# Altium footprint library PCB - BATTERY HOLDER - MPD BC2AAPC.PCBLIB: 1 footprints
Each footprint in its own frame and in the unit in brackets; x right, y up, seen from the top. Pads: shape width x height; smd on the part's side, far side on the other; paste and mask are expansions set on the pad; w line width, h text height; cw(c..) or ccw(c..) is an arc to the next point about the centre after c.
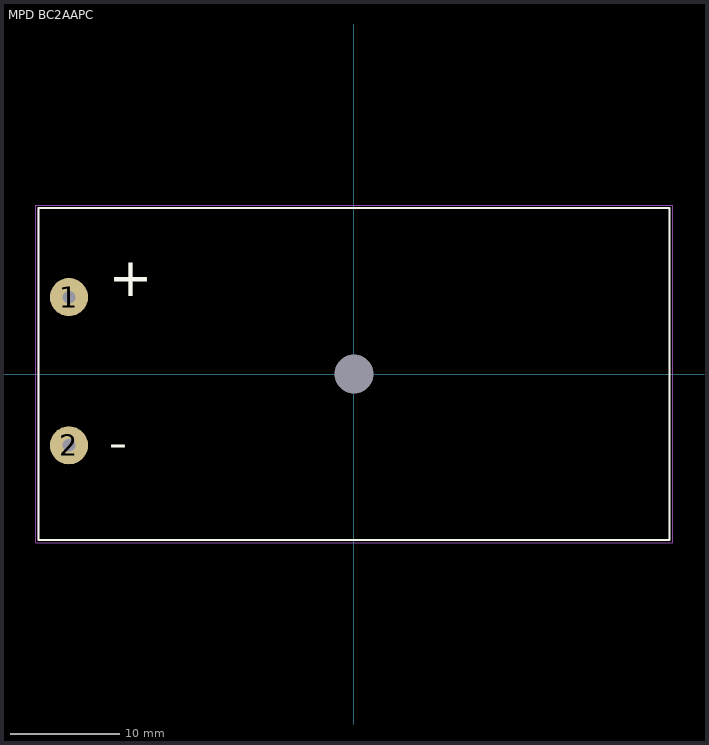
[diagram p0: the footprint, top view; thin cyan lines are the x and y axes]

## MPD BC2AAPC [mm]
height 15
pads (3):
  round 3.5 hole 1.17 unplated: 1(-26.16,7.054) 2(-26.16,-6.546)
  rect 0x0 hole 3.56 unplated: M(0,0)
Top Overlay:
  lines w0.2: -28.956,-15.24 -28.956,15.24 28.956,15.24 28.956,-15.24 -28.956,-15.24
  text "-" at -22.487,-9 h6
  text "+" at -22.487,6 h6
Mechanical 13:
  lines w0.1: -28.956,-15.24 28.956,-15.24 28.956,15.24 -28.956,15.24 -28.956,-15.24
Mechanical 15:
  lines w0.05: -29.2,-15.5 29.2,-15.5 29.2,15.5 -29.2,15.5 -29.2,-15.5
  lines w0.2: -1,0 1,0 ; 0,-1 0,1
3D body "MPD - BC2AAPC.step": height 15, standoff -7.37, extent -29,-15.25 29,15.25